# EAGLE library part 3X4 (library 3M_372xx)
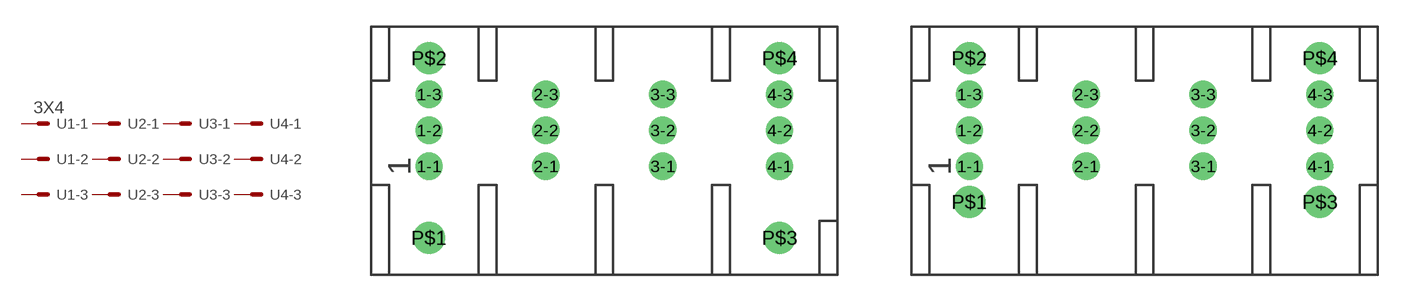
[diagram p3: symbol with the pads of 37212-62A3-003; footprints 37212-62A3-003, 37212-62B3-003]

Designator prefix -; gates 3-2=M 3-1=M 3-3=M 2-1=M 2-2=M 2-3=M 4-3=M 4-2=M 4-1=M 1-3=M 1-2=M 1-1=MV

## 3X4A  [37212-62A3-003]
1-1  1-1:S  pas
1-2  1-2:S  pas
1-3  1-3:S  pas
2-1  2-1:S  pas
2-2  2-2:S  pas
2-3  2-3:S  pas
3-1  3-1:S  pas
3-2  3-2:S  pas
3-3  3-3:S  pas
4-1  4-1:S  pas
4-2  4-2:S  pas
4-3  4-3:S  pas

## 3X4B  [37212-62B3-003]
Pads as for 37212-62A3-003

## Footprint 37212-62A3-003 (pad centres in mm)
drill 1: 1-1 0,4; 1-2 0,6; 1-3 0,8; 2-1 6.5,4; 2-2 6.5,6; 2-3 6.5,8; 3-1 13,4; 3-2 13,6; 3-3 13,8; 4-1 19.5,4; 4-2 19.5,6; 4-3 19.5,8
drill 1 pad 1.778: P$1 0,0; P$2 0,10; P$3 19.5,0; P$4 19.5,10

## Footprint 37212-62B3-003 (pad centres in mm)
drill 1: 1-1 0,2; 1-2 0,4; 1-3 0,6; 2-1 6.5,2; 2-2 6.5,4; 2-3 6.5,6; 3-1 13,2; 3-2 13,4; 3-3 13,6; 4-1 19.5,2; 4-2 19.5,4; 4-3 19.5,6
drill 1 pad 1.778: P$1 0,0; P$2 0,8; P$3 19.5,0; P$4 19.5,8